# Altium integrated library 430450812.IntLib: 1 symbol
Pins are listed as number, name and electrical type; pins without a type are passive.

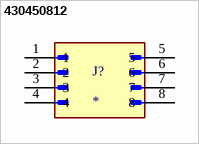
[diagram p0: symbol 430450812]

## 430450812
designator J?
MP: 430450812; Price: None; Package: None; Availability: Unavailable; Value: *
footprint MOLEX_430450812
pins: 1, 2, 3, 4, 5, 6, 7, 8